# Altium schematic symbol library Sensors.SchLib: 4 symbols
Pins are listed as number, name and electrical type; pins without a type are passive.

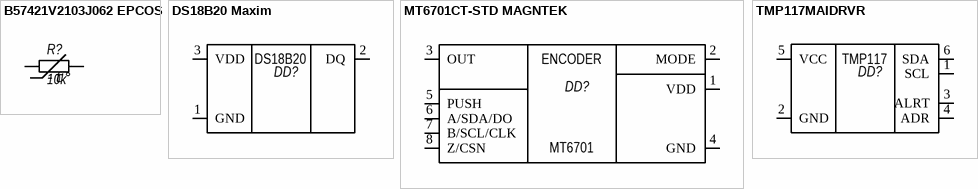
[diagram p0: symbols B57421V2103J062 EPCOS to TMP117MAIDRVR]

## B57421V2103J062 EPCOS
designator R?, comment 10k
NTC термистор, B=4000k; Partnumber: =Identifier
footprint RES0805
pins: 1, 2
text: -t°

## DS18B20 Maxim
designator DD?  (value not drawn)
Partnumber: =Identifier
footprint TO-92
pins: 1 GND, 2 DQ, 3 VDD
text: DS18B20

## MT6701CT-STD MAGNTEK
designator DD?  (value not drawn)
footprint SOIC-8/150mil
pins: 1 VDD, 2 MODE, 3 OUT, 4 GND, 5 PUSH, 6 A/SDA/DO, 7 B/SCL/CLK, 8 Z/CSN
text: ENCODER; MT6701

## TMP117MAIDRVR
designator DD?  (value not drawn)
High-Accuracy, Low-Power, Digital Temperature Sensor With SMBus™- and I2C-Compatible Interface
footprint WSON-6
pins: 1 SCL, 2 GND, 3 ALRT, 4 ADR, 5 VCC, 6 SDA
text: TMP117